# EAGLE library part TINY24A (library atmel)
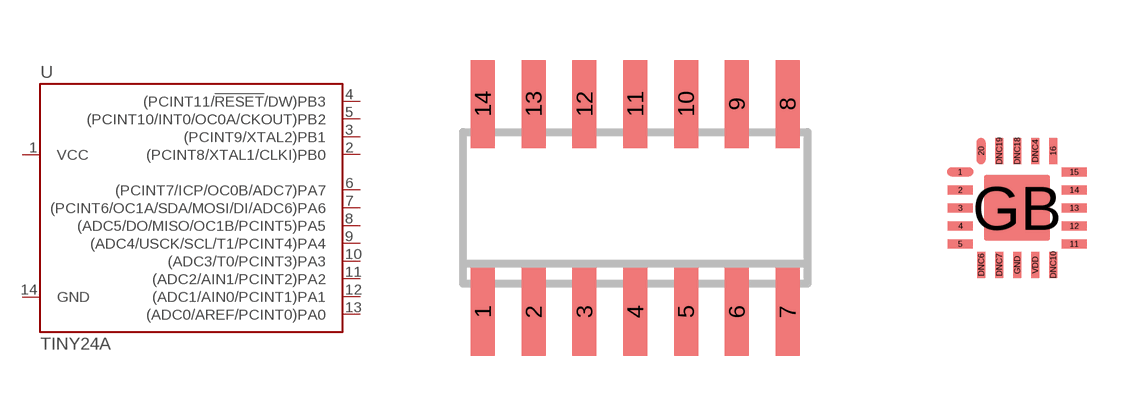
[diagram p90: symbol with the pads of SOIC14; footprints SOIC14, 20-VQFN(3X3)]

Designator prefix -

## TINY24A/SO14  [SOIC14]
1  VCC  pwr
2  (PCINT8/XTAL1/CLKI)PB0
3  (PCINT9/XTAL2)PB1
4  (PCINT11/!RESET!/DW)PB3
5  (PCINT10/INT0/OC0A/CKOUT)PB2
6  (PCINT7/ICP/OC0B/ADC7)PA7
7  (PCINT6/OC1A/SDA/MOSI/DI/ADC6)PA6
8  (ADC5/DO/MISO/OC1B/PCINT5)PA5
9  (ADC4/USCK/SCL/T1/PCINT4)PA4
10  (ADC3/T0/PCINT3)PA3
11  (ADC2/AIN1/PCINT2)PA2
12  (ADC1/AIN0/PCINT1)PA1
13  (ADC0/AREF/PCINT0)PA0
14  GND  pwr

## TINY24A/20-VQFN  [20-VQFN(3X3)]
1  (ADC4/USCK/SCL/T1/PCINT4)PA4
2  (ADC3/T0/PCINT3)PA3
3  (ADC2/AIN1/PCINT2)PA2
4  (ADC1/AIN0/PCINT1)PA1
5  (ADC0/AREF/PCINT0)PA0
11  (PCINT8/XTAL1/CLKI)PB0
12  (PCINT9/XTAL2)PB1
13  (PCINT11/!RESET!/DW)PB3
14  (PCINT10/INT0/OC0A/CKOUT)PB2
15  (PCINT7/ICP/OC0B/ADC7)PA7
16  (PCINT6/OC1A/SDA/MOSI/DI/ADC6)PA6
20  (ADC5/DO/MISO/OC1B/PCINT5)PA5
DNC4  GND  pwr
GB  GND  pwr
GND  GND  pwr
VDD  VCC  pwr

## Footprint SOIC14 (pad centres in mm)
smd 0.6 x 2.2: 1 -3.81,-2.6; 2 -2.54,-2.6; 3 -1.27,-2.6; 4 0,-2.6; 5 1.27,-2.6; 6 2.54,-2.6; 7 3.81,-2.6; 8 3.81,2.6; 9 2.54,2.6; 10 1.27,2.6; 11 0,2.6; 12 -1.27,2.6; 13 -2.54,2.6; 14 -3.81,2.6

## Footprint 20-VQFN(3X3) (pad centres in mm)
smd 0.65 x 0.22: 1 -1.425,0.9; 2 -1.425,0.45; 3 -1.425,0; 4 -1.425,-0.45; 5 -1.425,-0.9; 11 1.425,-0.9; 12 1.425,-0.45; 13 1.425,0; 14 1.425,0.45; 15 1.425,0.9
smd 0.22 x 0.65: 16 0.9,1.425; 20 -0.9,1.425; DNC4 0.45,1.425; DNC6 -0.9,-1.425; DNC7 -0.45,-1.425; DNC10 0.9,-1.425; DNC18 0,1.425; DNC19 -0.45,1.425; GND 0,-1.425; VDD 0.45,-1.425
smd 1.65 x 1.65: GB 0,0